# Altium footprint library BoardLib.PcbLib: 21 footprints (part 2 of 2)
Each footprint in its own frame and in the unit in brackets; x right, y up, seen from the top. Pads: shape width x height; smd on the part's side, far side on the other; paste and mask are expansions set on the pad; w line width, h text height; cw(c..) or ccw(c..) is an arc to the next point about the centre after c.
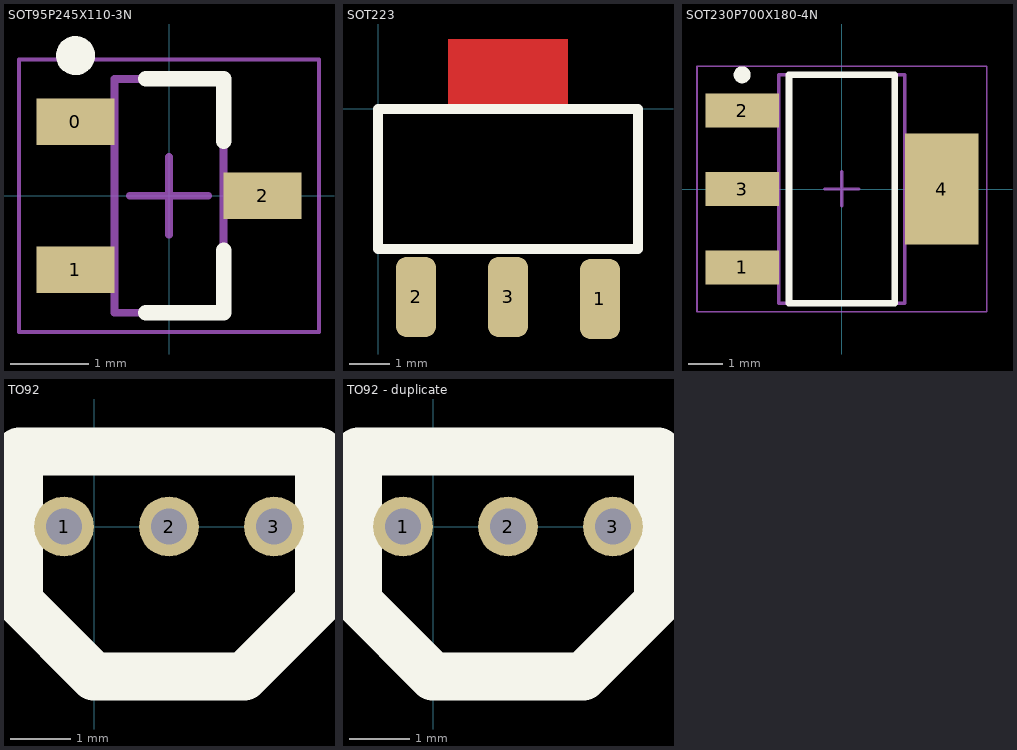
[diagram p1: the footprints below, top view; thin cyan lines are the x and y axes]

## SOT95P245X110-3N [mm] "SOT23, 3-Leads, Body 2,90x2,45mm, Pitch 0,95mm, IPC Medium Density"
height 1.1
pads (3):
  rect 1x0.6 smd: 0(-1.2,0.95) 1(-1.2,-0.95) 2(1.2,0)
Top Overlay:
  circle w0.25: c-1.2,1.8 r0.125
  lines w0.2: -0.3,-1.5 0.7,-1.5 0.7,-0.7 ; -0.3,1.5 0.7,1.5 0.7,0.7
Mechanical 13:
  lines w0.1: -0.7,-1.5 0.7,-1.5 0.7,1.5 -0.7,1.5 -0.7,-1.5
Mechanical 15:
  lines w0.05: -1.925,-1.75 1.925,-1.75 1.925,1.75 -1.925,1.75 -1.925,-1.75
  lines w0.1: -0.5,0 0.5,0 ; 0,-0.5 0,0.5
3D body: height 1.1, standoff 0.05, extent -0.7,-1.5 0.7,1.5

## SOT223 [mm]
pads (3):
  rrect50% 1x2 smd: 1(5.55,-4.75) 2(0.95,-4.7) 3(3.25,-4.7)
Top Layer:
  rectangle: 1.75,0 4.75,1.75
Top Overlay:
  lines w0.254: 0,-3.5 6.5,-3.5 6.5,0 0,0 0,-3.5

## SOT230P700X180-4N [mm] "SOT223, 4-Leads, Body 6,50x7,00mm (avg), Pitch 2,30mm, IPC Medium Density"
height 1.8
pads (4):
  rect 2.15x1 smd: 1(-2.925,-2.3) 2(-2.925,2.3) 3(-2.925,0)
  rect 2.15x3.25 smd: 4(2.925,0)
Top Overlay:
  circle w0.25: c-2.925,3.35 r0.125
  lines w0.2: -1.55,-3.35 1.55,-3.35 1.55,3.35 -1.55,3.35 -1.55,-3.35
Mechanical 13:
  lines w0.1: -1.85,-3.35 1.85,-3.35 1.85,3.35 -1.85,3.35 -1.85,-3.35
Mechanical 15:
  lines w0.05: -4.25,-3.6 4.25,-3.6 4.25,3.6 -4.25,3.6 -4.25,-3.6
  lines w0.1: -0.5,0 0.5,0 ; 0,-0.5 0,0.5
3D body: height 1.8, standoff 0.02, extent -1.85,-3.35 1.85,3.35

## TO92 [mm]
pads (3):
  round 1 hole 0.6: 1(-0.5,0) 2(1.25,0) 3(3,0)
Top Overlay:
  lines w0.8: -1.25,-1.25 -1.25,1.25 3.75,1.25 3.75,-1.25 2.5,-2.5 0,-2.5 -1.25,-1.25

## TO92 - duplicate [mm]
pads (3):
  round 1 hole 0.6: 1(-0.5,0) 2(1.25,0) 3(3,0)
Top Overlay:
  lines w0.8: -1.25,-1.25 -1.25,1.25 3.75,1.25 3.75,-1.25 2.5,-2.5 0,-2.5 -1.25,-1.25